# EAGLE library part 6130XX15721_61301015721 (library WE-special)
WR-PHD 2.54 mm Socket Header Bottom Entry ARTICLE PROPERTIES: Pins:4;​ 5;​ 6;​ 8;​ 10;​ 20 KIND PROPERTIES: Pitch：2.54 mm Quality Class:3 as per CECC 75 301-802 Rows：Single Gender：Socket Header Type：Bottom Entry MATERIAL PROPERTIES: Insulator Material PA9T Insulator Flammability Rating:UL94 V-0 Contact Material:Copper Alloy Contact Plating:Gold Contact Type:Stamped GENERAL INFORMATION Operating Temperature:-40 up to +125 °C Compliance:Lead free / RoHS ELECTRICAL PROPERTIES: Rated Current:3 A IR1:3A Withstanding Voltage:500 V (AC) Contact Resistance:20 mΩ RISO:1000 MΩ CERTIFICATION UL Approval:E323964 PACKAGING PROPERTIES Packaging:Tube <https://www.we-online.com/catalog/media/o33213v209%20Family_WR-PHD_6130xx15721.jpg> Details see: https://www.we-online.com/catalog/en/PHD_2_54_SOCKET_HEADER_BOTTOM_ENTRY_6130XX15721 Updated by Ella Wu 2021-12-08 2021 (C) Würth Elektronik
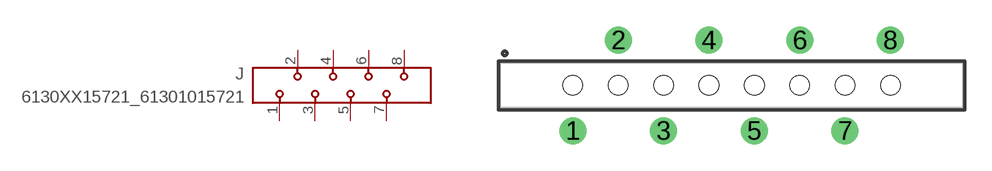
[diagram p0: symbol with the pads of 61301015721; footprint 61301015721]

Designator prefix J

## 6130XX15721_61301015721 (DATASHEET-URL: https://www.we-online.com/redexpert/spec/61301015721?ae; GENDER: Socket Header; IR: 3A; MOUNT: THT; PACKAGING: Tube; PART-NUMBER: 61301015721; PINS: 10; PITCH: 2.54mm; ROWS: Single; TYPE: Bottom Entry; VALUE: 61301015721)  [61301015721]
1  1  pas
2  2  pas
3  3  pas
4  4  pas
5  5  pas
6  6  pas
7  7  pas
8  8  pas

## Footprint 61301015721 (pad centres in mm)
WR-PHD 2.54 mm Socket Header Bottom Entry, 10 Pins
drill 1: 1 -8.89,-2.54; 2 -6.35,2.54; 3 -3.81,-2.54; 4 -1.27,2.54; 5 1.27,-2.54; 6 3.81,2.54; 7 6.35,-2.54; 8 8.89,2.54
hole 1.1 at -8.89,0
hole 1.1 at -6.35,0
hole 1.1 at -3.81,0
hole 1.1 at -1.27,0
hole 1.1 at 1.27,0
hole 1.1 at 3.81,0
hole 1.1 at 6.35,0
hole 1.1 at 8.89,0